# Altium footprint library IC_SOP.PcbLib: 36 footprints (part 4 of 4)
Each footprint in its own frame and in the unit in brackets; x right, y up, seen from the top. Pads: shape width x height; smd on the part's side, far side on the other; paste and mask are expansions set on the pad; w line width, h text height; cw(c..) or ccw(c..) is an arc to the next point about the centre after c.
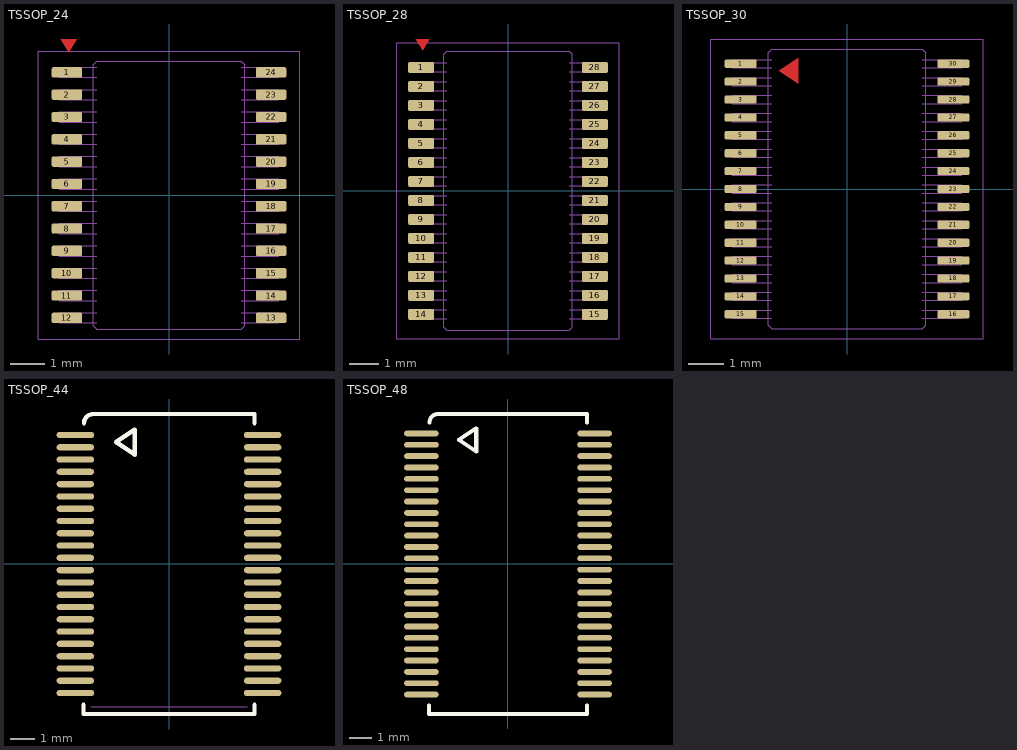
[diagram p3: the footprints below, top view; thin cyan lines are the x and y axes]

## TSSOP_24 [mil]
pads (24):
  rrect30% 35x11.81 smd mask+2: 1(-117,140.75) 2(-117,115.16) 3(-117,89.57) 4(-117,63.98) 5(-117,38.39) 6(-117,12.8) 7(-117,-12.8) 8(-117,-38.39) 9(-117,-63.98) 10(-117,-89.57) 11(-117,-115.16) 12(-117,-140.75) 13(117,-140.75) 14(117,-115.16) 15(117,-89.57) 16(117,-63.98) 17(117,-38.39) 18(117,-12.8) 19(117,12.8) 20(117,38.39) 21(117,63.98) 22(117,89.57) 23(117,115.16) 24(117,140.75)
Top Layer:
  region: -115,163.98 -106,178.98 -124,178.98
Top Courtyard:
  lines w1: -150,-165 -150,165 150,165 150,-165 -150,-165
Top Component Outline:
  lines w1: -114.17,-146.65 -114.17,-134.84 ; -114.17,-121.06 -114.17,-109.25 ; -114.17,-95.47 -114.17,-83.66 ; -114.17,-69.88 -114.17,-58.07 ; -114.17,-44.29 -114.17,-32.48 ; -114.17,-18.7 -114.17,-6.89 ; -114.17,6.89 -114.17,18.7 ; -114.17,32.48 -114.17,44.29 ; -114.17,58.07 -114.17,69.88 ; -114.17,83.66 -114.17,95.47 ; -114.17,109.25 -114.17,121.06 ; -114.17,134.84 -114.17,146.65 ; -107.53,-146.65 -107.53,-134.84 ; -107.53,-121.06 -107.53,-109.25 ; -107.53,-95.47 -107.53,-83.66 ; -107.53,-69.88 -107.53,-58.07 ; -107.53,-44.29 -107.53,-32.48 ; -107.53,-18.7 -107.53,-6.89 ; -107.53,6.89 -107.53,18.7 ; -107.53,32.48 -107.53,44.29 ; -107.53,58.07 -107.53,69.88 ; -107.53,83.66 -107.53,95.47 ; -107.53,109.25 -107.53,121.06 ; -107.53,134.84 -107.53,146.65 ; -82.68,-146.65 -125.98,-146.65 -125.98,-134.84 -82.68,-134.84 ; -82.68,-121.06 -125.98,-121.06 -125.98,-109.25 -82.68,-109.25 ; -82.68,-95.47 -125.98,-95.47 -125.98,-83.66 -82.68,-83.66 ; -82.68,-69.88 -125.98,-69.88 -125.98,-58.07 -82.68,-58.07 ; -82.68,-44.29 -125.98,-44.29 -125.98,-32.48 -82.68,-32.48 ; -82.68,-18.7 -125.98,-18.7 -125.98,-6.89 -82.68,-6.89 ; -82.68,6.89 -125.98,6.89 -125.98,18.7 -82.68,18.7 ; -82.68,32.48 -125.98,32.48 -125.98,44.29 -82.68,44.29 ; -82.68,58.07 -125.98,58.07 -125.98,69.88 -82.68,69.88 ; -82.68,83.66 -125.98,83.66 -125.98,95.47 -82.68,95.47 ; -82.68,109.25 -125.98,109.25 -125.98,121.06 -82.68,121.06 ; -82.68,134.84 -125.98,134.84 -125.98,146.65 -82.68,146.65 ; 82.68,-146.65 125.98,-146.65 125.98,-134.84 82.68,-134.84 ; 82.68,-121.06 125.98,-121.06 125.98,-109.25 82.68,-109.25 ; 82.68,-95.47 125.98,-95.47 125.98,-83.66 82.68,-83.66 ; 82.68,-69.88 125.98,-69.88 125.98,-58.07 82.68,-58.07 ; 82.68,-44.29 125.98,-44.29 125.98,-32.48 82.68,-32.48 ; 82.68,-18.7 125.98,-18.7 125.98,-6.89 82.68,-6.89 ; 82.68,6.89 125.98,6.89 125.98,18.7 82.68,18.7 ; 82.68,32.48 125.98,32.48 125.98,44.29 82.68,44.29 ; 82.68,58.07 125.98,58.07 125.98,69.88 82.68,69.88 ; 82.68,83.66 125.98,83.66 125.98,95.47 82.68,95.47 ; 82.68,109.25 125.98,109.25 125.98,121.06 82.68,121.06 ; 82.68,134.84 125.98,134.84 125.98,146.65 82.68,146.65 ; 107.53,-146.65 107.53,-134.84 ; 107.53,-121.06 107.53,-109.25 ; 107.53,-95.47 107.53,-83.66 ; 107.53,-69.88 107.53,-58.07 ; 107.53,-44.29 107.53,-32.48 ; 107.53,-18.7 107.53,-6.89 ; 107.53,6.89 107.53,18.7 ; 107.53,32.48 107.53,44.29 ; 107.53,58.07 107.53,69.88 ; 107.53,83.66 107.53,95.47 ; 107.53,109.25 107.53,121.06 ; 107.53,134.84 107.53,146.65 ; 114.17,-146.65 114.17,-134.84 ; 114.17,-121.06 114.17,-109.25 ; 114.17,-95.47 114.17,-83.66 ; 114.17,-69.88 114.17,-58.07 ; 114.17,-44.29 114.17,-32.48 ; 114.17,-18.7 114.17,-6.89 ; 114.17,6.89 114.17,18.7 ; 114.17,32.48 114.17,44.29 ; 114.17,58.07 114.17,69.88 ; 114.17,83.66 114.17,95.47 ; 114.17,109.25 114.17,121.06 ; 114.17,134.84 114.17,146.65 ; 86.61,149.61 82.68,153.54 -82.68,153.54 -86.61,149.61 -86.61,-149.61 -82.68,-153.54 82.68,-153.54 86.61,-149.61 86.62,149.61 ; 86.61,149.61 86.62,149.61
3D body: height 7, standoff 0, extent -125.98,-44.29 -114.17,-32.48
3D body: height 24, standoff 0, extent -114.17,-44.29 -107.53,-32.48
3D body: height 24, standoff 17, extent -107.53,-44.29 -82.68,-32.48
3D body: height 7, standoff 0, extent 114.17,-44.29 125.98,-32.48
3D body: height 24, standoff 0, extent 107.53,-44.29 114.17,-32.48
3D body: height 24, standoff 17, extent 82.68,-44.29 107.53,-32.48
3D body: height 24, standoff 17, extent 82.68,-18.7 107.53,-6.89
3D body: height 24, standoff 0, extent 107.53,-18.7 114.17,-6.89
3D body: height 7, standoff 0, extent 114.17,-18.7 125.98,-6.89
3D body: height 7, standoff 0, extent 114.17,6.89 125.98,18.7
3D body: height 24, standoff 0, extent 107.53,6.89 114.17,18.7
3D body: height 24, standoff 17, extent 82.68,6.89 107.53,18.7
3D body: height 7, standoff 0, extent 114.17,32.48 125.98,44.29
3D body: height 24, standoff 0, extent 107.53,32.48 114.17,44.29
3D body: height 24, standoff 17, extent 82.68,32.48 107.53,44.29
3D body: height 7, standoff 0, extent 114.17,58.07 125.98,69.88
3D body: height 24, standoff 0, extent 107.53,58.07 114.17,69.88
3D body: height 24, standoff 17, extent 82.68,58.07 107.53,69.88
3D body: height 7, standoff 0, extent 114.17,83.66 125.98,95.47
3D body: height 24, standoff 0, extent 107.53,83.66 114.17,95.47
3D body: height 24, standoff 17, extent 82.68,83.66 107.53,95.47
3D body: height 7, standoff 0, extent 114.17,109.25 125.98,121.06
3D body: height 24, standoff 0, extent 107.53,109.25 114.17,121.06
3D body: height 24, standoff 17, extent 82.68,109.25 107.53,121.06
3D body: height 7, standoff 0, extent 114.17,134.84 125.98,146.65
3D body: height 24, standoff 0, extent 107.53,134.84 114.17,146.65
3D body: height 24, standoff 17, extent 82.68,134.84 107.53,146.65
3D body: height 24, standoff 17, extent -107.53,-18.7 -82.68,-6.89
3D body: height 24, standoff 0, extent -114.17,-18.7 -107.53,-6.89
3D body: height 7, standoff 0, extent -125.98,-18.7 -114.17,-6.89
3D body: height 24, standoff 17, extent -107.53,6.89 -82.68,18.7
3D body: height 24, standoff 0, extent -114.17,6.89 -107.53,18.7
3D body: height 7, standoff 0, extent -125.98,6.89 -114.17,18.7
3D body: height 24, standoff 17, extent -107.53,32.48 -82.68,44.29
3D body: height 24, standoff 0, extent -114.17,32.48 -107.53,44.29
3D body: height 7, standoff 0, extent -125.98,32.48 -114.17,44.29
3D body: height 24, standoff 17, extent -107.53,58.07 -82.68,69.88
3D body: height 24, standoff 0, extent -114.17,58.07 -107.53,69.88
3D body: height 7, standoff 0, extent -125.98,58.07 -114.17,69.88
3D body: height 24, standoff 17, extent -107.53,83.66 -82.68,95.47
3D body: height 24, standoff 0, extent -114.17,83.66 -107.53,95.47
3D body: height 7, standoff 0, extent -125.98,83.66 -114.17,95.47
3D body: height 24, standoff 17, extent -107.53,109.25 -82.68,121.06
3D body: height 24, standoff 0, extent -114.17,109.25 -107.53,121.06
3D body: height 7, standoff 0, extent -125.98,109.25 -114.17,121.06
3D body: height 7, standoff 0, extent -125.98,134.84 -114.17,146.65
3D body: height 24, standoff 0, extent -114.17,134.84 -107.53,146.65
3D body: height 24, standoff 17, extent -107.53,134.84 -82.68,146.65
3D body: height 40, standoff 0, extent -86.61,-153.54 86.61,153.54
3D body: height 7, standoff 0, extent -125.98,-69.88 -114.17,-58.07
3D body: height 24, standoff 0, extent -114.17,-69.88 -107.53,-58.07
3D body: height 24, standoff 17, extent -107.53,-69.88 -82.68,-58.07
3D body: height 7, standoff 0, extent 114.17,-69.88 125.98,-58.07
3D body: height 24, standoff 0, extent 107.53,-69.88 114.17,-58.07
3D body: height 24, standoff 17, extent 82.68,-69.88 107.53,-58.07
3D body: height 24, standoff 17, extent 82.68,-95.47 107.53,-83.66
3D body: height 24, standoff 0, extent 107.53,-95.47 114.17,-83.66
3D body: height 7, standoff 0, extent 114.17,-95.47 125.98,-83.66
3D body: height 24, standoff 17, extent -107.53,-95.47 -82.68,-83.66
3D body: height 24, standoff 0, extent -114.17,-95.47 -107.53,-83.66
3D body: height 7, standoff 0, extent -125.98,-95.47 -114.17,-83.66
3D body: height 7, standoff 0, extent -125.98,-146.65 -114.17,-134.84
3D body: height 24, standoff 0, extent -114.17,-146.65 -107.53,-134.84
3D body: height 24, standoff 17, extent -107.53,-146.65 -82.68,-134.84
3D body: height 7, standoff 0, extent 114.17,-146.65 125.98,-134.84
3D body: height 24, standoff 0, extent 107.53,-146.65 114.17,-134.84
3D body: height 24, standoff 17, extent 82.68,-146.65 107.53,-134.84
3D body: height 24, standoff 17, extent 82.68,-121.06 107.53,-109.25
3D body: height 24, standoff 0, extent 107.53,-121.06 114.17,-109.25
3D body: height 7, standoff 0, extent 114.17,-121.06 125.98,-109.25
3D body: height 24, standoff 17, extent -107.53,-121.06 -82.68,-109.25
3D body: height 24, standoff 0, extent -114.17,-121.06 -107.53,-109.25
3D body: height 7, standoff 0, extent -125.98,-121.06 -114.17,-109.25

## TSSOP_28 [mil]
pads (28):
  rrect30% 35x15 smd mask+2: 1(-117,166.34) 2(-117,140.75) 3(-117,115.16) 4(-117,89.57) 5(-117,63.98) 6(-117,38.39) 7(-117,12.8) 8(-117,-12.8) 9(-117,-38.39) 10(-117,-63.98) 11(-117,-89.57) 12(-117,-115.16) 13(-117,-140.75) 14(-117,-166.34) 15(117,-166.34) 16(117,-140.75) 17(117,-115.16) 18(117,-89.57) 19(117,-63.98) 20(117,-38.39) 21(117,-12.8) 22(117,12.8) 23(117,38.39) 24(117,63.98) 25(117,89.57) 26(117,115.16) 27(117,140.75) 28(117,166.34)
Top Layer:
  region: -115,189.57 -106,204.57 -124,204.57
Top Courtyard:
  lines w1: -150,-199.57 150,-199.57 150,199.57 -150,199.57 -150,-199.57
Top Component Outline:
  lines w1: -114.17,-172.24 -114.17,-160.43 ; -114.17,-146.65 -114.17,-134.84 ; -114.17,-121.06 -114.17,-109.25 ; -114.17,-95.47 -114.17,-83.66 ; -114.17,-69.88 -114.17,-58.07 ; -114.17,-44.29 -114.17,-32.48 ; -114.17,-18.7 -114.17,-6.89 ; -114.17,6.89 -114.17,18.7 ; -114.17,32.48 -114.17,44.29 ; -114.17,58.07 -114.17,69.88 ; -114.17,83.66 -114.17,95.47 ; -114.17,109.25 -114.17,121.06 ; -114.17,134.84 -114.17,146.65 ; -114.17,160.43 -114.17,172.24 ; -107.53,-172.24 -107.53,-160.43 ; -107.53,-146.65 -107.53,-134.84 ; -107.53,-121.06 -107.53,-109.25 ; -107.53,-95.47 -107.53,-83.66 ; -107.53,-69.88 -107.53,-58.07 ; -107.53,-44.29 -107.53,-32.48 ; -107.53,-18.7 -107.53,-6.89 ; -107.53,6.89 -107.53,18.7 ; -107.53,32.48 -107.53,44.29 ; -107.53,58.07 -107.53,69.88 ; -107.53,83.66 -107.53,95.47 ; -107.53,109.25 -107.53,121.06 ; -107.53,134.84 -107.53,146.65 ; -107.53,160.43 -107.53,172.24 ; -82.68,-172.24 -125.98,-172.24 -125.98,-160.43 -82.68,-160.43 ; -82.68,-146.65 -125.98,-146.65 -125.98,-134.84 -82.68,-134.84 ; -82.68,-121.06 -125.98,-121.06 -125.98,-109.25 -82.68,-109.25 ; -82.68,-95.47 -125.98,-95.47 -125.98,-83.66 -82.68,-83.66 ; -82.68,-69.88 -125.98,-69.88 -125.98,-58.07 -82.68,-58.07 ; -82.68,-44.29 -125.98,-44.29 -125.98,-32.48 -82.68,-32.48 ; -82.68,-18.7 -125.98,-18.7 -125.98,-6.89 -82.68,-6.89 ; -82.68,6.89 -125.98,6.89 -125.98,18.7 -82.68,18.7 ; -82.68,32.48 -125.98,32.48 -125.98,44.29 -82.68,44.29 ; -82.68,58.07 -125.98,58.07 -125.98,69.88 -82.68,69.88 ; -82.68,83.66 -125.98,83.66 -125.98,95.47 -82.68,95.47 ; -82.68,109.25 -125.98,109.25 -125.98,121.06 -82.68,121.06 ; -82.68,134.84 -125.98,134.84 -125.98,146.65 -82.68,146.65 ; -82.68,160.43 -125.98,160.43 -125.98,172.24 -82.68,172.24 ; 82.68,-172.24 125.98,-172.24 125.98,-160.43 82.68,-160.43 ; 82.68,-146.65 125.98,-146.65 125.98,-134.84 82.68,-134.84 ; 82.68,-121.06 125.98,-121.06 125.98,-109.25 82.68,-109.25 ; 82.68,-95.47 125.98,-95.47 125.98,-83.66 82.68,-83.66 ; 82.68,-69.88 125.98,-69.88 125.98,-58.07 82.68,-58.07 ; 82.68,-44.29 125.98,-44.29 125.98,-32.48 82.68,-32.48 ; 82.68,-18.7 125.98,-18.7 125.98,-6.89 82.68,-6.89 ; 82.68,6.89 125.98,6.89 125.98,18.7 82.68,18.7 ; 82.68,32.48 125.98,32.48 125.98,44.29 82.68,44.29 ; 82.68,58.07 125.98,58.07 125.98,69.88 82.68,69.88 ; 82.68,83.66 125.98,83.66 125.98,95.47 82.68,95.47 ; 82.68,109.25 125.98,109.25 125.98,121.06 82.68,121.06 ; 82.68,134.84 125.98,134.84 125.98,146.65 82.68,146.65 ; 82.68,160.43 125.98,160.43 125.98,172.24 82.68,172.24 ; 107.53,-172.24 107.53,-160.43 ; 107.53,-146.65 107.53,-134.84 ; 107.53,-121.06 107.53,-109.25 ; 107.53,-95.47 107.53,-83.66 ; 107.53,-69.88 107.53,-58.07 ; 107.53,-44.29 107.53,-32.48 ; 107.53,-18.7 107.53,-6.89 ; 107.53,6.89 107.53,18.7 ; 107.53,32.48 107.53,44.29 ; 107.53,58.07 107.53,69.88 ; 107.53,83.66 107.53,95.47 ; 107.53,109.25 107.53,121.06 ; 107.53,134.84 107.53,146.65 ; 107.53,160.43 107.53,172.24 ; 114.17,-172.24 114.17,-160.43 ; 114.17,-146.65 114.17,-134.84 ; 114.17,-121.06 114.17,-109.25 ; 114.17,-95.47 114.17,-83.66 ; 114.17,-69.88 114.17,-58.07 ; 114.17,-44.29 114.17,-32.48 ; 114.17,-18.7 114.17,-6.89 ; 114.17,6.89 114.17,18.7 ; 114.17,32.48 114.17,44.29 ; 114.17,58.07 114.17,69.88 ; 114.17,83.66 114.17,95.47 ; 114.17,109.25 114.17,121.06 ; 114.17,134.84 114.17,146.65 ; 114.17,160.43 114.17,172.24 ; 86.61,184.06 86.62,184.06 ; 86.61,184.06 82.68,187.99 -82.68,187.99 -86.61,184.06 -86.61,-184.05 -82.68,-187.99 82.68,-187.99 86.61,-184.05 86.62,184.06
3D body: height 7, standoff 0, extent -125.98,-95.47 -114.17,-83.66
3D body: height 24, standoff 0, extent -114.17,-95.47 -107.53,-83.66
3D body: height 24, standoff 17, extent -107.53,-95.47 -82.68,-83.66
3D body: height 7, standoff 0, extent 114.17,-95.47 125.98,-83.66
3D body: height 24, standoff 0, extent 107.53,-95.47 114.17,-83.66
3D body: height 24, standoff 17, extent 82.68,-95.47 107.53,-83.66
3D body: height 24, standoff 17, extent 82.68,-121.06 107.53,-109.25
3D body: height 24, standoff 0, extent 107.53,-121.06 114.17,-109.25
3D body: height 7, standoff 0, extent 114.17,-121.06 125.98,-109.25
3D body: height 24, standoff 17, extent -107.53,-121.06 -82.68,-109.25
3D body: height 24, standoff 0, extent -114.17,-121.06 -107.53,-109.25
3D body: height 7, standoff 0, extent -125.98,-121.06 -114.17,-109.25
3D body: height 7, standoff 0, extent -125.98,-69.88 -114.17,-58.07
3D body: height 24, standoff 0, extent -114.17,-69.88 -107.53,-58.07
3D body: height 24, standoff 17, extent -107.53,-69.88 -82.68,-58.07
3D body: height 7, standoff 0, extent 114.17,-69.88 125.98,-58.07
3D body: height 24, standoff 0, extent 107.53,-69.88 114.17,-58.07
3D body: height 24, standoff 17, extent 82.68,-69.88 107.53,-58.07
3D body: height 24, standoff 17, extent 82.68,-44.29 107.53,-32.48
3D body: height 24, standoff 0, extent 107.53,-44.29 114.17,-32.48
3D body: height 7, standoff 0, extent 114.17,-44.29 125.98,-32.48
3D body: height 24, standoff 17, extent -107.53,-44.29 -82.68,-32.48
3D body: height 24, standoff 0, extent -114.17,-44.29 -107.53,-32.48
3D body: height 7, standoff 0, extent -125.98,-44.29 -114.17,-32.48
3D body: height 40, standoff 0, extent -86.61,-187.99 86.62,187.99
3D body: height 24, standoff 17, extent -107.53,160.43 -82.68,172.24
3D body: height 24, standoff 0, extent -114.17,160.43 -107.53,172.24
3D body: height 7, standoff 0, extent -125.98,160.43 -114.17,172.24
3D body: height 7, standoff 0, extent -125.98,134.84 -114.17,146.65
3D body: height 24, standoff 0, extent -114.17,134.84 -107.53,146.65
3D body: height 24, standoff 17, extent -107.53,134.84 -82.68,146.65
3D body: height 7, standoff 0, extent -125.98,109.25 -114.17,121.06
3D body: height 24, standoff 0, extent -114.17,109.25 -107.53,121.06
3D body: height 24, standoff 17, extent -107.53,109.25 -82.68,121.06
3D body: height 7, standoff 0, extent -125.98,83.66 -114.17,95.47
3D body: height 24, standoff 0, extent -114.17,83.66 -107.53,95.47
3D body: height 24, standoff 17, extent -107.53,83.66 -82.68,95.47
3D body: height 7, standoff 0, extent -125.98,58.07 -114.17,69.88
3D body: height 24, standoff 0, extent -114.17,58.07 -107.53,69.88
3D body: height 24, standoff 17, extent -107.53,58.07 -82.68,69.88
3D body: height 7, standoff 0, extent -125.98,32.48 -114.17,44.29
3D body: height 24, standoff 0, extent -114.17,32.48 -107.53,44.29
3D body: height 24, standoff 17, extent -107.53,32.48 -82.68,44.29
3D body: height 7, standoff 0, extent -125.98,6.89 -114.17,18.7
3D body: height 24, standoff 0, extent -114.17,6.89 -107.53,18.7
3D body: height 24, standoff 17, extent -107.53,6.89 -82.68,18.7
3D body: height 24, standoff 17, extent 82.68,160.43 107.53,172.24
3D body: height 24, standoff 0, extent 107.53,160.43 114.17,172.24
3D body: height 7, standoff 0, extent 114.17,160.43 125.98,172.24
3D body: height 24, standoff 17, extent 82.68,134.84 107.53,146.65
3D body: height 24, standoff 0, extent 107.53,134.84 114.17,146.65
3D body: height 7, standoff 0, extent 114.17,134.84 125.98,146.65
3D body: height 24, standoff 17, extent 82.68,109.25 107.53,121.06
3D body: height 24, standoff 0, extent 107.53,109.25 114.17,121.06
3D body: height 7, standoff 0, extent 114.17,109.25 125.98,121.06
3D body: height 24, standoff 17, extent 82.68,83.66 107.53,95.47
3D body: height 24, standoff 0, extent 107.53,83.66 114.17,95.47
3D body: height 7, standoff 0, extent 114.17,83.66 125.98,95.47
3D body: height 24, standoff 17, extent 82.68,58.07 107.53,69.88
3D body: height 24, standoff 0, extent 107.53,58.07 114.17,69.88
3D body: height 7, standoff 0, extent 114.17,58.07 125.98,69.88
3D body: height 24, standoff 17, extent 82.68,32.48 107.53,44.29
3D body: height 24, standoff 0, extent 107.53,32.48 114.17,44.29
3D body: height 7, standoff 0, extent 114.17,32.48 125.98,44.29
3D body: height 7, standoff 0, extent 114.17,6.89 125.98,18.7
3D body: height 24, standoff 0, extent 107.53,6.89 114.17,18.7
3D body: height 24, standoff 17, extent 82.68,6.89 107.53,18.7
3D body: height 24, standoff 17, extent 82.68,-18.7 107.53,-6.89
3D body: height 24, standoff 0, extent 107.53,-18.7 114.17,-6.89
3D body: height 7, standoff 0, extent 114.17,-18.7 125.98,-6.89
3D body: height 24, standoff 17, extent -107.53,-18.7 -82.68,-6.89
3D body: height 24, standoff 0, extent -114.17,-18.7 -107.53,-6.89
3D body: height 7, standoff 0, extent -125.98,-18.7 -114.17,-6.89
3D body: height 7, standoff 0, extent -125.98,-172.24 -114.17,-160.43
3D body: height 24, standoff 0, extent -114.17,-172.24 -107.53,-160.43
3D body: height 24, standoff 17, extent -107.53,-172.24 -82.68,-160.43
3D body: height 7, standoff 0, extent 114.17,-172.24 125.98,-160.43
3D body: height 24, standoff 0, extent 107.53,-172.24 114.17,-160.43
3D body: height 24, standoff 17, extent 82.68,-172.24 107.53,-160.43
3D body: height 24, standoff 17, extent 82.68,-146.65 107.53,-134.84
3D body: height 24, standoff 0, extent 107.53,-146.65 114.17,-134.84
3D body: height 7, standoff 0, extent 114.17,-146.65 125.98,-134.84
3D body: height 24, standoff 17, extent -107.53,-146.65 -82.68,-134.84
3D body: height 24, standoff 0, extent -114.17,-146.65 -107.53,-134.84
3D body: height 7, standoff 0, extent -125.98,-146.65 -114.17,-134.84

## TSSOP_30 [mil]
pads (30):
  rrect30% 35x9 smd mask+2: 1(-117,137.79) 2(-117,118.11) 3(-117,98.42) 4(-117,78.74) 5(-117,59.05) 6(-117,39.37) 7(-117,19.68) 8(-117,0) 9(-117,-19.68) 10(-117,-39.37) 11(-117,-59.05) 12(-117,-78.74) 13(-117,-98.42) 14(-117,-118.11) 15(-117,-137.79) 16(117,-137.79) 17(117,-118.11) 18(117,-98.42) 19(117,-78.74) 20(117,-59.05) 21(117,-39.37) 22(117,-19.68) 23(117,0) 24(117,19.68) 25(117,39.37) 26(117,59.05) 27(117,78.74) 28(117,98.42) 29(117,118.11) 30(117,137.79)
Top Layer:
  region: -75,130 -53.79,115.86 -53.79,144.14
Top Courtyard:
  lines w1: -150,-165 150,-165 150,165 -150,165 -150,-165
Top Component Outline:
  drawing of 159 lines, arcs and shapes, not listed
3D body: height 24, standoff 17, extent -107.53,-122.61 -82.68,-113.61
3D body: height 24, standoff 0, extent -114.17,-122.61 -107.53,-113.61
3D body: height 7, standoff 0, extent -125.98,-122.61 -114.17,-113.61
3D body: height 7, standoff 0, extent 114.17,-122.61 125.98,-113.61
3D body: height 24, standoff 0, extent 107.53,-122.61 114.17,-113.61
3D body: height 24, standoff 17, extent 82.68,-122.61 107.53,-113.61
3D body: height 24, standoff 17, extent 82.68,-142.29 107.53,-133.29
3D body: height 24, standoff 0, extent 107.53,-142.29 114.17,-133.29
3D body: height 7, standoff 0, extent 114.17,-142.29 125.98,-133.29
3D body: height 7, standoff 0, extent -125.98,-142.29 -114.17,-133.29
3D body: height 24, standoff 0, extent -114.17,-142.29 -107.53,-133.29
3D body: height 24, standoff 17, extent -107.53,-142.29 -82.68,-133.29
3D body: height 24, standoff 17, extent 82.68,-102.92 107.53,-93.92
3D body: height 24, standoff 0, extent 107.53,-102.92 114.17,-93.92
3D body: height 7, standoff 0, extent 114.17,-102.92 125.98,-93.92
3D body: height 7, standoff 0, extent -125.98,-102.92 -114.17,-93.92
3D body: height 24, standoff 0, extent -114.17,-102.92 -107.53,-93.92
3D body: height 24, standoff 17, extent -107.53,-102.92 -82.68,-93.92
3D body: height 24, standoff 17, extent 82.68,-83.24 107.53,-74.24
3D body: height 24, standoff 0, extent 107.53,-83.24 114.17,-74.24
3D body: height 7, standoff 0, extent 114.17,-83.24 125.98,-74.24
3D body: height 7, standoff 0, extent -125.98,-83.24 -114.17,-74.24
3D body: height 24, standoff 0, extent -114.17,-83.24 -107.53,-74.24
3D body: height 24, standoff 17, extent -107.53,-83.24 -82.68,-74.24
3D body: height 24, standoff 17, extent 82.68,-63.55 107.53,-54.55
3D body: height 24, standoff 0, extent 107.53,-63.55 114.17,-54.55
3D body: height 7, standoff 0, extent 114.17,-63.55 125.98,-54.55
3D body: height 7, standoff 0, extent -125.98,-63.55 -114.17,-54.55
3D body: height 24, standoff 0, extent -114.17,-63.55 -107.53,-54.55
3D body: height 24, standoff 17, extent -107.53,-63.55 -82.68,-54.55
3D body: height 24, standoff 17, extent 82.68,-43.87 107.53,-34.87
3D body: height 24, standoff 0, extent 107.53,-43.87 114.17,-34.87
3D body: height 7, standoff 0, extent 114.17,-43.87 125.98,-34.87
3D body: height 7, standoff 0, extent -125.98,-43.87 -114.17,-34.87
3D body: height 24, standoff 0, extent -114.17,-43.87 -107.53,-34.87
3D body: height 24, standoff 17, extent -107.53,-43.87 -82.68,-34.87
3D body: height 24, standoff 17, extent 82.68,-24.18 107.53,-15.19
3D body: height 24, standoff 0, extent 107.53,-24.18 114.17,-15.19
3D body: height 7, standoff 0, extent 114.17,-24.18 125.98,-15.19
3D body: height 7, standoff 0, extent -125.98,-24.18 -114.17,-15.19
3D body: height 24, standoff 0, extent -114.17,-24.18 -107.53,-15.19
3D body: height 24, standoff 17, extent -107.53,-24.18 -82.68,-15.19
3D body: height 24, standoff 17, extent -107.53,133.29 -82.68,142.29
3D body: height 24, standoff 0, extent -114.17,133.29 -107.53,142.29
3D body: height 7, standoff 0, extent -125.98,133.29 -114.17,142.29
3D body: height 7, standoff 0, extent 114.17,133.29 125.98,142.29
3D body: height 24, standoff 0, extent 107.53,133.29 114.17,142.29
3D body: height 24, standoff 17, extent 82.68,133.29 107.53,142.29
3D body: height 24, standoff 17, extent -107.53,113.61 -82.68,122.61
3D body: height 24, standoff 0, extent -114.17,113.61 -107.53,122.61
3D body: height 7, standoff 0, extent -125.98,113.61 -114.17,122.61
3D body: height 7, standoff 0, extent 114.17,113.61 125.98,122.61
3D body: height 24, standoff 0, extent 107.53,113.61 114.17,122.61
3D body: height 24, standoff 17, extent 82.68,113.61 107.53,122.61
3D body: height 24, standoff 17, extent -107.53,93.92 -82.68,102.92
3D body: height 24, standoff 0, extent -114.17,93.92 -107.53,102.92
3D body: height 7, standoff 0, extent -125.98,93.92 -114.17,102.92
3D body: height 7, standoff 0, extent 114.17,93.92 125.98,102.92
3D body: height 24, standoff 0, extent 107.53,93.92 114.17,102.92
3D body: height 24, standoff 17, extent 82.68,93.92 107.53,102.92
3D body: height 24, standoff 17, extent -107.53,74.24 -82.68,83.24
3D body: height 24, standoff 0, extent -114.17,74.24 -107.53,83.24
3D body: height 7, standoff 0, extent -125.98,74.24 -114.17,83.24
3D body: height 7, standoff 0, extent 114.17,74.24 125.98,83.24
3D body: height 24, standoff 0, extent 107.53,74.24 114.17,83.24
3D body: height 24, standoff 17, extent 82.68,74.24 107.53,83.24
3D body: height 24, standoff 17, extent -107.53,54.55 -82.68,63.55
3D body: height 24, standoff 0, extent -114.17,54.55 -107.53,63.55
3D body: height 7, standoff 0, extent -125.98,54.55 -114.17,63.55
3D body: height 7, standoff 0, extent 114.17,54.55 125.98,63.55
3D body: height 24, standoff 0, extent 107.53,54.55 114.17,63.55
3D body: height 24, standoff 17, extent 82.68,54.55 107.53,63.55
3D body: height 24, standoff 17, extent -107.53,34.87 -82.68,43.87
3D body: height 24, standoff 0, extent -114.17,34.87 -107.53,43.87
3D body: height 7, standoff 0, extent -125.98,34.87 -114.17,43.87
3D body: height 7, standoff 0, extent 114.17,34.87 125.98,43.87
3D body: height 24, standoff 0, extent 107.53,34.87 114.17,43.87
3D body: height 24, standoff 17, extent 82.68,34.87 107.53,43.87
3D body: height 24, standoff 17, extent -107.53,-4.5 -82.68,4.5
3D body: height 24, standoff 0, extent -114.17,-4.5 -107.53,4.5
3D body: height 7, standoff 0, extent -125.98,-4.5 -114.17,4.5
3D body: height 7, standoff 0, extent 114.17,-4.5 125.98,4.5
3D body: height 24, standoff 0, extent 107.53,-4.5 114.17,4.5
3D body: height 24, standoff 17, extent 82.68,-4.5 107.53,4.5
3D body: height 24, standoff 17, extent 82.68,15.19 107.53,24.18
3D body: height 24, standoff 0, extent 107.53,15.19 114.17,24.18
3D body: height 7, standoff 0, extent 114.17,15.19 125.98,24.18
3D body: height 7, standoff 0, extent -125.98,15.19 -114.17,24.18
3D body: height 24, standoff 0, extent -114.17,15.19 -107.53,24.18
3D body: height 24, standoff 17, extent -107.53,15.19 -82.68,24.18
3D body: height 40, standoff 0, extent -86.61,-153.54 86.61,153.54

## TSSOP_44 [mil]
pads (44):
  oval 60x10 smd: 1(-150,206.69) 2(-150,187.01) 3(-150,167.32) 4(-150,147.64) 5(-150,127.95) 6(-150,108.27) 7(-150,88.58) 8(-150,68.9) 9(-150,49.21) 10(-150,29.53) 11(-150,9.84) 12(-150,-9.84) 13(-150,-29.53) 14(-150,-49.21) 15(-150,-68.9) 16(-150,-88.58) 17(-150,-108.27) 18(-150,-127.95) 19(-150,-147.64) 20(-150,-167.32) 21(-150,-187.01) 22(-150,-206.69) 23(150,-206.69) 24(150,-187.01) 25(150,-167.32) 26(150,-147.64) 27(150,-127.95) 28(150,-108.27) 29(150,-88.58) 30(150,-68.9) 31(150,-49.21) 32(150,-29.53) 33(150,-9.84) 34(150,9.84) 35(150,29.53) 36(150,49.21) 37(150,68.9) 38(150,88.58) 39(150,108.27) 40(150,127.95) 41(150,147.64) 42(150,167.32) 43(150,187.01) 44(150,206.69)
Top Overlay:
  lines w7: -137,-225.31 -137,-240.31 137,-240.31 137,-225.31 ; -136.25,225.31 cw(c-121.25,225.31) -121.25,240.31 137,240.31 137,225.31 ; -85,195.31 -55,175.31 -55,215.31 -85,195.31
Top Component Outline:
  lines w1: -125,-228.31 125,-228.31
3D body: height 48.5, standoff 48, extent -108,187.31 -82,213.31
3D body: height 48, standoff 0, extent -125,-228.31 125,228.31
3D body: height 15, standoff 0, extent 124.57,201.69 160.57,211.69
3D body: height 15, standoff 0, extent 124.57,182.01 160.57,192.01
3D body: height 15, standoff 0, extent 124.57,162.32 160.57,172.32
3D body: height 15, standoff 0, extent 124.57,142.64 160.57,152.64
3D body: height 15, standoff 0, extent 124.57,122.95 160.57,132.95
3D body: height 15, standoff 0, extent 124.57,103.27 160.57,113.27
3D body: height 15, standoff 0, extent 124.57,83.58 160.57,93.58
3D body: height 15, standoff 0, extent 124.57,63.9 160.57,73.9
3D body: height 15, standoff 0, extent 124.57,44.21 160.57,54.21
3D body: height 15, standoff 0, extent 124.57,24.53 160.57,34.53
3D body: height 15, standoff 0, extent 124.57,4.84 160.57,14.84
3D body: height 15, standoff 0, extent 124.57,-14.84 160.57,-4.84
3D body: height 15, standoff 0, extent 124.57,-34.53 160.57,-24.53
3D body: height 15, standoff 0, extent 124.57,-54.21 160.57,-44.21
3D body: height 15, standoff 0, extent 124.57,-73.9 160.57,-63.9
3D body: height 15, standoff 0, extent 124.57,-93.58 160.57,-83.58
3D body: height 15, standoff 0, extent 124.57,-113.27 160.57,-103.27
3D body: height 15, standoff 0, extent 124.57,-132.95 160.57,-122.95
3D body: height 15, standoff 0, extent 124.57,-152.64 160.57,-142.64
3D body: height 15, standoff 0, extent 124.57,-172.32 160.57,-162.32
3D body: height 15, standoff 0, extent 124.57,-192.01 160.57,-182.01
3D body: height 15, standoff 0, extent 124.57,-211.69 160.57,-201.69
3D body: height 15, standoff 0, extent -160.57,201.69 -124.57,211.69
3D body: height 15, standoff 0, extent -160.57,182.01 -124.57,192.01
3D body: height 15, standoff 0, extent -160.57,162.32 -124.57,172.32
3D body: height 15, standoff 0, extent -160.57,142.64 -124.57,152.64
3D body: height 15, standoff 0, extent -160.57,122.95 -124.57,132.95
3D body: height 15, standoff 0, extent -160.57,103.27 -124.57,113.27
3D body: height 15, standoff 0, extent -160.57,83.58 -124.57,93.58
3D body: height 15, standoff 0, extent -160.57,63.9 -124.57,73.9
3D body: height 15, standoff 0, extent -160.57,44.21 -124.57,54.21
3D body: height 15, standoff 0, extent -160.57,24.53 -124.57,34.53
3D body: height 15, standoff 0, extent -160.57,4.84 -124.57,14.84
3D body: height 15, standoff 0, extent -160.57,-14.84 -124.57,-4.84
3D body: height 15, standoff 0, extent -160.57,-34.53 -124.57,-24.53
3D body: height 15, standoff 0, extent -160.57,-54.21 -124.57,-44.21
3D body: height 15, standoff 0, extent -160.57,-73.9 -124.57,-63.9
3D body: height 15, standoff 0, extent -160.57,-93.58 -124.57,-83.58
3D body: height 15, standoff 0, extent -160.57,-113.27 -124.57,-103.27
3D body: height 15, standoff 0, extent -160.57,-132.95 -124.57,-122.95
3D body: height 15, standoff 0, extent -160.57,-152.64 -124.57,-142.64
3D body: height 15, standoff 0, extent -160.57,-172.32 -124.57,-162.32
3D body: height 15, standoff 0, extent -160.57,-192.01 -124.57,-182.01
3D body: height 15, standoff 0, extent -160.57,-211.69 -124.57,-201.69

## TSSOP_48 [mil]
pads (48):
  oval 60x10 smd: 1(-150,226.38) 2(-150,206.69) 3(-150,187.01) 4(-150,167.32) 5(-150,147.64) 6(-150,127.95) 7(-150,108.27) 8(-150,88.58) 9(-150,68.9) 10(-150,49.21) 11(-150,29.53) 12(-150,9.84) 13(-150,-9.84) 14(-150,-29.53) 15(-150,-49.21) 16(-150,-68.9) 17(-150,-88.58) 18(-150,-108.27) 19(-150,-127.95) 20(-150,-147.64) 21(-150,-167.32) 22(-150,-187.01) 23(-150,-206.69) 24(-150,-226.38) 25(150,-226.38) 26(150,-206.69) 27(150,-187.01) 28(150,-167.32) 29(150,-147.64) 30(150,-127.95) 31(150,-108.27) 32(150,-88.58) 33(150,-68.9) 34(150,-49.21) 35(150,-29.53) 36(150,-9.84) 37(150,9.84) 38(150,29.53) 39(150,49.21) 40(150,68.9) 41(150,88.58) 42(150,108.27) 43(150,127.95) 44(150,147.64) 45(150,167.32) 46(150,187.01) 47(150,206.69) 48(150,226.38)
Top Overlay:
  lines w7: -137,-245 -137,-260 137,-260 137,-245 ; -136.25,245 cw(c-121.25,245) -121.25,260 137,260 137,245 ; -85,215 -55,195 -55,235 -85,215
3D body: height 48.5, standoff 48, extent -108,207 -82,233
3D body: height 48, standoff 0, extent -125,-248 125,248
3D body: height 15, standoff 0, extent 124.57,221.38 160.57,231.38
3D body: height 15, standoff 0, extent 124.57,201.69 160.57,211.69
3D body: height 15, standoff 0, extent 124.57,182.01 160.57,192.01
3D body: height 15, standoff 0, extent 124.57,162.32 160.57,172.32
3D body: height 15, standoff 0, extent 124.57,142.64 160.57,152.64
3D body: height 15, standoff 0, extent 124.57,122.95 160.57,132.95
3D body: height 15, standoff 0, extent 124.57,103.27 160.57,113.27
3D body: height 15, standoff 0, extent 124.57,83.58 160.57,93.58
3D body: height 15, standoff 0, extent 124.57,63.9 160.57,73.9
3D body: height 15, standoff 0, extent 124.57,44.21 160.57,54.21
3D body: height 15, standoff 0, extent 124.57,24.53 160.57,34.53
3D body: height 15, standoff 0, extent 124.57,4.84 160.57,14.84
3D body: height 15, standoff 0, extent 124.57,-14.84 160.57,-4.84
3D body: height 15, standoff 0, extent 124.57,-34.53 160.57,-24.53
3D body: height 15, standoff 0, extent 124.57,-54.21 160.57,-44.21
3D body: height 15, standoff 0, extent 124.57,-73.9 160.57,-63.9
3D body: height 15, standoff 0, extent 124.57,-93.58 160.57,-83.58
3D body: height 15, standoff 0, extent 124.57,-113.27 160.57,-103.27
3D body: height 15, standoff 0, extent 124.57,-132.95 160.57,-122.95
3D body: height 15, standoff 0, extent 124.57,-152.64 160.57,-142.64
3D body: height 15, standoff 0, extent 124.57,-172.32 160.57,-162.32
3D body: height 15, standoff 0, extent 124.57,-192.01 160.57,-182.01
3D body: height 15, standoff 0, extent 124.57,-211.69 160.57,-201.69
3D body: height 15, standoff 0, extent 124.57,-231.38 160.57,-221.38
3D body: height 15, standoff 0, extent -160.57,221.38 -124.57,231.38
3D body: height 15, standoff 0, extent -160.57,201.69 -124.57,211.69
3D body: height 15, standoff 0, extent -160.57,182.01 -124.57,192.01
3D body: height 15, standoff 0, extent -160.57,162.32 -124.57,172.32
3D body: height 15, standoff 0, extent -160.57,142.64 -124.57,152.64
3D body: height 15, standoff 0, extent -160.57,122.95 -124.57,132.95
3D body: height 15, standoff 0, extent -160.57,103.27 -124.57,113.27
3D body: height 15, standoff 0, extent -160.57,83.58 -124.57,93.58
3D body: height 15, standoff 0, extent -160.57,63.9 -124.57,73.9
3D body: height 15, standoff 0, extent -160.57,44.21 -124.57,54.21
3D body: height 15, standoff 0, extent -160.57,24.53 -124.57,34.53
3D body: height 15, standoff 0, extent -160.57,4.84 -124.57,14.84
3D body: height 15, standoff 0, extent -160.57,-14.84 -124.57,-4.84
3D body: height 15, standoff 0, extent -160.57,-34.53 -124.57,-24.53
3D body: height 15, standoff 0, extent -160.57,-54.21 -124.57,-44.21
3D body: height 15, standoff 0, extent -160.57,-73.9 -124.57,-63.9
3D body: height 15, standoff 0, extent -160.57,-93.58 -124.57,-83.58
3D body: height 15, standoff 0, extent -160.57,-113.27 -124.57,-103.27
3D body: height 15, standoff 0, extent -160.57,-132.95 -124.57,-122.95
3D body: height 15, standoff 0, extent -160.57,-152.64 -124.57,-142.64
3D body: height 15, standoff 0, extent -160.57,-172.32 -124.57,-162.32
3D body: height 15, standoff 0, extent -160.57,-192.01 -124.57,-182.01
3D body: height 15, standoff 0, extent -160.57,-211.69 -124.57,-201.69
3D body: height 15, standoff 0, extent -160.57,-231.38 -124.57,-221.38